# Altium schematic symbol library encoder-mjf.SchLib: 3 symbols
Pins are listed as number, name and electrical type; pins without a type are passive.

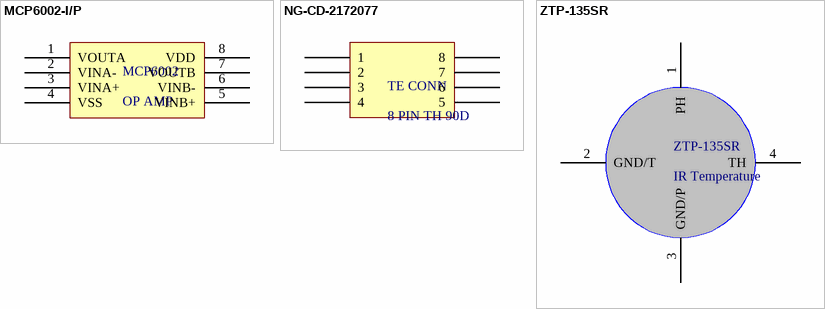
[diagram p0: symbols MCP6002-I/P to ZTP-135SR]

## MCP6002-I/P
designator MCP6002, comment OP AMP
pins: 1 VOUTA, 2 VINA-, 3 VINA+, 4 VSS, 5 VINB+, 6 VINB-, 7 VOUTB, 8 VDD

## NG-CD-2172077
designator TE CONN, comment 8 PIN TH 90D
footprint NG_CD_2172077
pins: 1, 2, 3, 4, 5, 6, 7, 8

## ZTP-135SR
designator ZTP-135SR, comment IR Temperature
Thermistor + Thermophile
footprint ZTP-135SR (IR Sensor)
pins: 1 PH, 2 GND/T, 3 GND/P, 4 TH